# EAGLE library part RS485 (library BaseApp)
ISL83485IBZ-ND (3.3v)
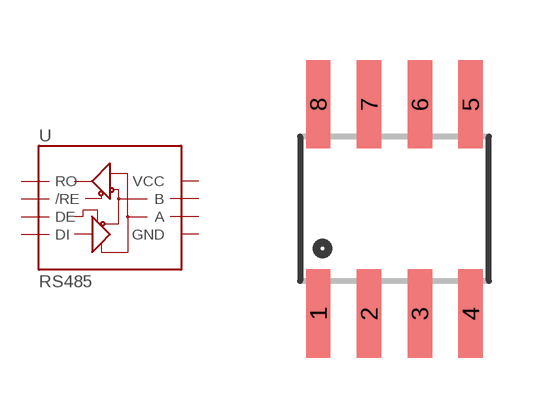
[diagram p53: symbol with the pads of SO08; footprint SO08]

Designator prefix -

## RS485  [SO08]
1  RO
2  /RE
3  DE
4  DI
5  GND
6  A
7  B
8  VCC

## RS485-3.3V  [SO08]
Pads as for SO08

## Footprint SO08 (pad centres in mm)
smd 0.61 x 2.21: 1 -1.905,-2.616; 2 -0.635,-2.616; 3 0.635,-2.616; 4 1.905,-2.616; 5 1.905,2.616; 6 0.635,2.616; 7 -0.635,2.616; 8 -1.905,2.616